# Altium footprint library MyLibOLD.pcblib: 112 footprints (part 5 of 7)
Each footprint in its own frame and in the unit in brackets; x right, y up, seen from the top. Pads: shape width x height; smd on the part's side, far side on the other; paste and mask are expansions set on the pad; w line width, h text height; cw(c..) or ccw(c..) is an arc to the next point about the centre after c.
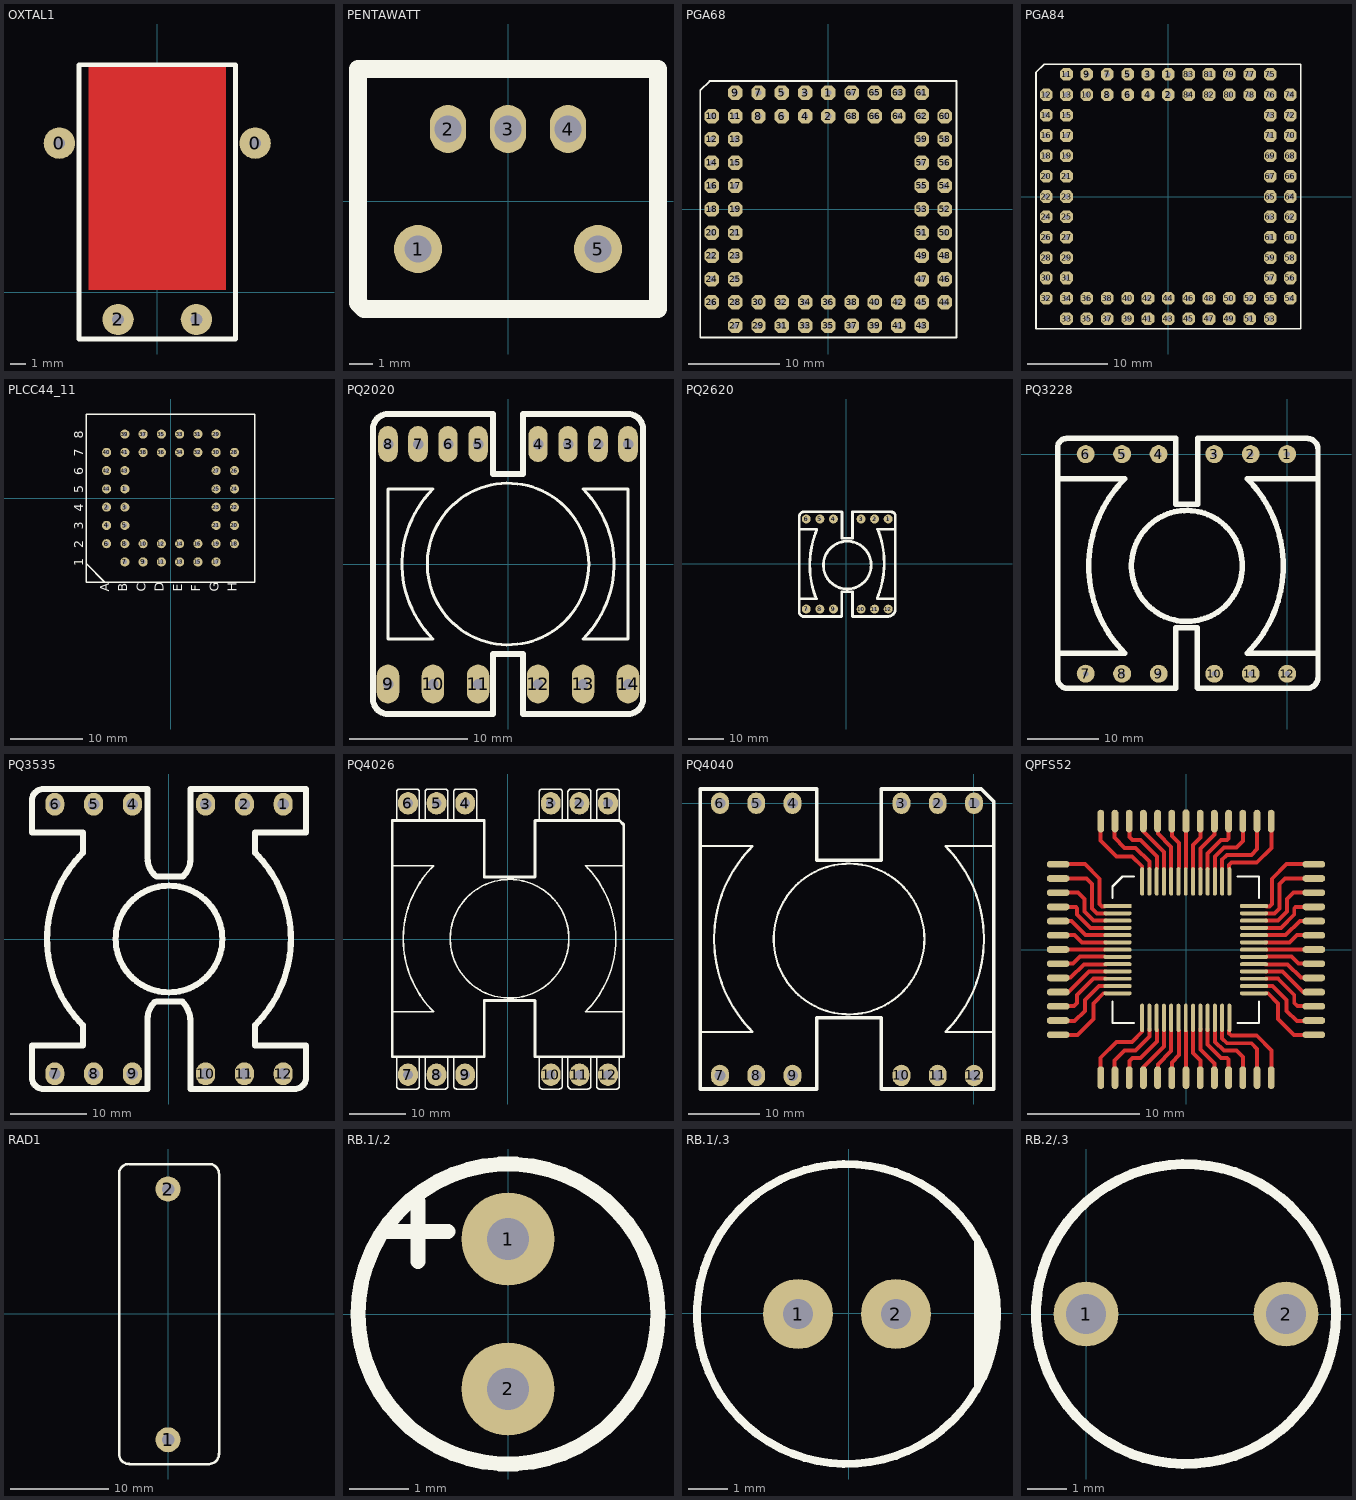
[diagram p4: the footprints below, top view; thin cyan lines are the x and y axes]

## OXTAL1 [mil]
pads (4):
  round 80 hole 30: 0(-250,380) 0(250,380) 1(100,-70) 2(-100,-70)
TopLayer:
  rectangle: -175,5 175,580
TopOverlay:
  lines w12: -200,-120 -200,580 200,580 200,-120 -200,-120

## PENTAWATT [mil]
pads (5):
  round 80 hole 45: 1(-150,-80) 5(150,-80)
  oval 60x80 hole 45: 2(-100,120) 3(0,120) 4(100,120)
TopOverlay:
  lines w30: -250,-170 -250,-100 -250,220 250,220 250,-180 -240,-180 -250,-170

## PGA68 [mil]
pads (68):
  oct 62x62 hole 25: 1(0,500) 2(0,400) 3(-100,500) 4(-100,400) 5(-200,500) 6(-200,400) 7(-300,500) 8(-300,400) 9(-400,500) 10(-500,400) 11(-400,400) 12(-500,300) 13(-400,300) 14(-500,200) 15(-400,200) 16(-500,100) 17(-400,100) 18(-500,0) 19(-400,0) 20(-500,-100) 21(-400,-100) 22(-500,-200) 23(-400,-200) 24(-500,-300) 25(-400,-300) 26(-500,-400) 27(-400,-500) 28(-400,-400) 29(-300,-500) 30(-300,-400) 31(-200,-500) 32(-200,-400) 33(-100,-500) 34(-100,-400) 35(0,-500) 36(0,-400) 37(100,-500) 38(100,-400) 39(200,-500) 40(200,-400) 41(300,-500) 42(300,-400) 43(400,-500) 44(500,-400) 45(400,-400) 46(500,-300) 47(400,-300) 48(500,-200) 49(400,-200) 50(500,-100) 51(400,-100) 52(500,0) 53(400,0) 54(500,100) 55(400,100) 56(500,200) 57(400,200) 58(500,300) 59(400,300) 60(500,400) 61(400,500) 62(400,400) 63(300,500) 64(300,400) 65(200,500) 66(200,400) 67(100,500) 68(100,400)
TopOverlay:
  lines w8: -550,-550 550,-550 550,550 -510,550 -550,510 -550,-550

## PGA84 [mil]
pads (84):
  oct 62x62 hole 25: 1(0,600) 2(0,500) 3(-100,600) 4(-100,500) 5(-200,600) 6(-200,500) 7(-300,600) 8(-300,500) 9(-400,600) 10(-400,500) 11(-500,600) 12(-600,500) 13(-500,500) 14(-600,400) 15(-500,400) 16(-600,300) 17(-500,300) 18(-600,200) 19(-500,200) 20(-600,100) 21(-500,100) 22(-600,0) 23(-500,0) 24(-600,-100) 25(-500,-100) 26(-600,-200) 27(-500,-200) 28(-600,-300) 29(-500,-300) 30(-600,-400) 31(-500,-400) 32(-600,-500) 33(-500,-600) 34(-500,-500) 35(-400,-600) 36(-400,-500) 37(-300,-600) 38(-300,-500) 39(-200,-600) 40(-200,-500) 41(-100,-600) 42(-100,-500) 43(0,-600) 44(0,-500) 45(100,-600) 46(100,-500) 47(200,-600) 48(200,-500) 49(300,-600) 50(300,-500) 51(400,-600) 52(400,-500) 53(500,-600) 54(600,-500) 55(500,-500) 56(600,-400) 57(500,-400) 58(600,-300) 59(500,-300) 60(600,-200) 61(500,-200) 62(600,-100) 63(500,-100) 64(600,0) 65(500,0) 66(600,100) 67(500,100) 68(600,200) 69(500,200) 70(600,300) 71(500,300) 72(600,400) 73(500,400) 74(600,500) 75(500,600) 76(500,500) 77(400,600) 78(400,500) 79(300,600) 80(300,500) 81(200,600) 82(200,500) 83(100,600) 84(100,500)
TopOverlay:
  lines w8: -650,-650 650,-650 650,650 -610,650 -650,610 -650,-650

## PLCC44_11 [mil]
pads (44):
  round 50 hole 25: 1(-250,50) 2(-350,-50) 3(-250,-50) 4(-350,-150) 5(-250,-150) 6(-350,-250) 7(-250,-350) 8(-250,-250) 9(-150,-350) 10(-150,-250) 11(-50,-350) 12(-50,-250) 13(50,-350) 14(50,-250) 15(150,-350) 16(150,-250) 17(250,-350) 18(350,-250) 19(250,-250) 20(350,-150) 21(250,-150) 22(350,-50) 23(250,-50) 24(350,50) 25(250,50) 26(350,150) 27(250,150) 28(350,250) 29(250,350) 30(250,250) 31(150,350) 32(150,250) 33(50,350) 34(50,250) 35(-50,350) 36(-50,250) 37(-150,350) 38(-150,250) 39(-250,350) 40(-350,250) 41(-250,250) 42(-350,150) 43(-250,150) 44(-350,50)
TopOverlay:
  lines w7.87: -460,-460 460,-460 460,460 -460,460 -460,-460
  lines w10: -460,-360 -360,-460
  text "8" at -476.43,325.55 h50
  text "7" at -476.43,225.55 h50
  text "6" at -476.43,125.55 h50
  text "5" at -476.43,25.55 h50
  text "4" at -476.43,-74.45 h50
  text "3" at -476.43,-174.45 h50
  text "2" at -476.43,-274.45 h50
  text "1" at -476.43,-374.45 h50
  text "H" at 363.57,-514.45 h50
  text "G" at 263.57,-514.45 h50
  text "F" at 163.57,-514.45 h50
  text "E" at 63.57,-514.45 h50
  text "D" at -36.43,-514.45 h50
  text "C" at -136.43,-514.45 h50
  text "B" at -236.43,-514.45 h50
  text "A" at -336.43,-514.45 h50

## PQ2020 [mil]
pads (14):
  oval 65x120 hole 35: 1(400,400) 2(300,400) 3(200,400) 4(100,400) 5(-100,400) 6(-200,400) 7(-300,400) 8(-400,400)
  oval 75x130 hole 35: 9(-400,-400) 10(-250,-400) 11(-100,-400) 12(100,-400) 13(250,-400) 14(400,-400)
TopOverlay:
  circle w10: c0,0 r269.26
  lines w10: -400,-250 -250,-250 cw(c0,0) -250,250 -400,250 -400,-250 ; 250,-250 ccw(c0,0) 250,250 400,250 400,-250 250,-250
  lines w20: -450,-450 ccw(c-400,-450) -400,-500 -50,-500 -50,-300 50,-300 50,-500 400,-500 ccw(c400,-450) 450,-450 450,450 ccw(c400,450) 400,500 50,500 50,300 -50,300 -50,500 -400,500 ccw(c-400,450) -450,450 -450,-450

## PQ2620 [mm]
pads (12):
  round 2.5 hole 0.8: 1(11.753,12.625) 2(7.939,12.625) 3(4.152,12.625) 4(-3.623,12.625) 5(-7.411,12.625) 6(-11.25,12.625) 7(-11.25,-12.665) 8(-7.411,-12.675) 9(-3.603,-12.675) 10(4.152,-12.675) 11(7.939,-12.675) 12(11.753,-12.675)
TopOverlay:
  circle w0.762: c0.272,-0.329 r6.706
  lines w0.762: -13.241,-13.639 -13.241,-11.632 ; -13.241,-11.708 -13.241,13.133 ; -13.221,13.335 cw(c-11.859,13.311) -12.072,14.655 ; -13.216,-9.752 -8.364,-9.752 ; -13.204,-13.723 ccw(c-11.961,-13.436) -12.334,-14.656 ; -13.139,9.755 -8.364,9.755 ; -12.276,-14.731 -1.405,-14.731 ; -12.098,14.657 -1.252,14.657 ; -8.496,-9.699 cw(c16.045,-0.278) -8.328,9.569 ; -1.252,-14.705 -1.252,-14.68 -1.252,-14.147 ; -1.252,-14.451 -1.252,-7.797 1.745,-7.797 1.745,-14.578 ; -1.227,14.53 -1.227,7.215 1.77,7.215 1.77,14.657 ; 1.72,-14.731 11.88,-14.731 ; 1.745,14.657 12.718,14.657 ; 8.719,-9.592 ccw(c-15.654,0.255) 8.887,9.676 ; 8.755,-9.778 13.531,-9.778 ; 8.755,9.729 13.607,9.729 ; 11.585,-14.732 ccw(c11.727,-12.699) 13.76,-12.557 ; 12.778,14.617 cw(c12.591,13.438) 13.785,13.459 ; 13.759,-12.75 13.759,13.184

## PQ3228 [mm]
pads (12):
  round 2.5 hole 0.8: 1(0,0) 2(-5.083,0) 3(-10.166,0) 4(-17.941,0) 5(-23.025,0) 6(-28.108,0) 7(-28.108,-30.624) 8(-23.025,-30.634) 9(-17.921,-30.634) 10(-10.166,-30.634) 11(-5.083,-30.634) 12(0,-30.634)
TopOverlay:
  circle w0.762: c-13.988,-15.597 r7.738
  lines w0.762: -32.022,-27.789 -31.006,-27.789 -30.752,-27.789 -22.624,-27.789 cw(c-10.432,-15.597) -22.624,-3.405 -30.752,-3.405 -32.022,-3.405 ; -30.677,-32.69 -29.661,-32.69 -26.594,-32.69 -15.723,-32.69 ; -30.498,-32.69 cw(c-30.587,-31.255) -32.022,-31.345 -32.022,0.913 cw(c-30.752,0.913) -30.752,2.183 -15.57,2.183 -15.57,-6.961 -12.466,-6.961 -12.466,2.183 ; -15.57,-32.41 -15.57,-25.756 ; -15.57,-32.106 -15.57,-32.639 -15.57,-32.664 -15.57,-24.233 -12.532,-24.233 -12.532,-32.624 ; -12.464,2.183 2.776,2.183 cw(c2.776,0.659) 4.3,0.659 4.3,-31.091 cw(c2.701,-31.091) 2.701,-32.69 -12.466,-32.69 ; 4.3,-27.789 2.776,-27.789 -5.606,-27.789 ccw(c-17.798,-15.597) -5.606,-3.405 2.776,-3.405 4.3,-3.405 ; -12.532,-32.624 -12.466,-32.69 ; -12.532,-32.624 -12.466,-32.69

## PQ3535 [mm]
pads (12):
  oval 2.5x3 hole 1.5: 1(15,17.7) 2(9.9,17.7) 3(4.8,17.7) 4(-4.8,17.7) 5(-9.9,17.7) 6(-15,17.7) 7(-15,-17.7) 8(-9.9,-17.7) 9(-4.8,-17.7) 10(4.8,-17.7) 11(9.9,-17.7) 12(15,-17.7)
TopOverlay:
  circle w0.8: c0,0 r7
  lines w0.8: -11.314,-11.314 cw(c0,0) -11.314,11.314 -11.314,13.986 -17.986,13.986 cw(c-17.953,14.019) -18,14.019 -18,18.2 cw(c-16.5,18.2) -16.5,19.7 -2.8,19.7 -2.8,10.57 ccw(c0.266,10.57) -1.902,8.402 ccw(c-1.414,8.89) -1.414,8.2 0,8.2 1.659,8.2 ccw(c1.659,8.541) 1.9,8.3 1.902,8.302 ccw(c-0.266,10.47) 2.8,10.47 2.8,19.7 18,19.7 18,14.066 cw(c17.906,14.066) 17.973,14 11.3,14 11.3,11.327 ; -11.3,-11.327 -11.3,-14 -17.973,-14 ccw(c-17.906,-14.066) -18,-14.066 -18,-18.2 ccw(c-16.5,-18.2) -16.5,-19.7 -2.8,-19.7 -2.8,-10.47 cw(c0.266,-10.47) -1.902,-8.302 ; -1.659,-8.2 0,-8.2 1.75,-8.2 ; 1.75,-8.25 cw(c-0.785,-10.785) 2.8,-10.785 2.8,-19.7 16.5,-19.7 ccw(c16.5,-18.2) 18,-18.2 18,-14.019 ccw(c17.953,-14.019) 17.986,-13.986 11.314,-13.986 11.314,-11.314 ccw(c0,0) 11.314,11.314
3D body "PQ3535.STEP": height 38.8, standoff -6, extent -18.3,-19.5 18.3,19.5

## PQ4026 [mm]
pads (12):
  oval 3.5x4 hole 1.7: 1(17.78,24.13) 2(12.7,24.13) 3(7.62,24.13) 4(-7.62,24.13) 5(-12.7,24.13) 6(-17.78,24.13) 7(-17.78,-24.13) 8(-12.7,-24.13) 9(-7.62,-24.13) 10(7.62,-24.13) 11(12.7,-24.13) 12(17.78,-24.13)
TopOverlay:
  circle w0.3: c0.28,0.05 r10.548
  lines w0.254: -19.812,-21.082 -19.812,-26.162 ccw(c-19.304,-26.162) -19.304,-26.67 -16.256,-26.67 ccw(c-16.256,-26.162) -15.748,-26.162 -15.748,-21.082 ; -19.812,21.082 -19.812,26.162 cw(c-19.304,26.162) -19.304,26.67 -16.256,26.67 cw(c-16.256,26.162) -15.748,26.162 -15.748,21.082 ; -14.732,-21.082 -14.732,-26.162 ccw(c-14.224,-26.162) -14.224,-26.67 -11.176,-26.67 ccw(c-11.176,-26.162) -10.668,-26.162 -10.668,-21.082 ; -14.732,21.082 -14.732,26.162 cw(c-14.224,26.162) -14.224,26.67 -11.176,26.67 cw(c-11.176,26.162) -10.668,26.162 -10.668,21.082 ; -9.652,-21.082 -9.652,-26.162 ccw(c-9.144,-26.162) -9.144,-26.67 -6.096,-26.67 ccw(c-6.096,-26.162) -5.588,-26.162 -5.588,-21.082 ; -9.652,21.082 -9.652,26.162 cw(c-9.144,26.162) -9.144,26.67 -6.096,26.67 cw(c-6.096,26.162) -5.588,26.162 -5.588,21.082 ; 5.588,-21.082 5.588,-26.162 ccw(c6.096,-26.162) 6.096,-26.67 9.144,-26.67 ccw(c9.144,-26.162) 9.652,-26.162 9.652,-21.082 ; 5.588,21.082 5.588,26.162 cw(c6.096,26.162) 6.096,26.67 9.144,26.67 cw(c9.144,26.162) 9.652,26.162 9.652,21.082 ; 10.668,-21.082 10.668,-26.162 ccw(c11.176,-26.162) 11.176,-26.67 14.224,-26.67 ccw(c14.224,-26.162) 14.732,-26.162 14.732,-21.082 ; 10.668,21.082 10.668,26.162 cw(c11.176,26.162) 11.176,26.67 14.224,26.67 cw(c14.224,26.162) 14.732,26.162 14.732,21.082 ; 15.748,-21.082 15.748,-26.162 ccw(c16.256,-26.162) 16.256,-26.67 19.304,-26.67 ccw(c19.304,-26.162) 19.812,-26.162 19.812,-21.082 ; 15.748,21.082 15.748,26.162 cw(c16.256,26.162) 16.256,26.67 19.304,26.67 cw(c19.304,26.162) 19.812,26.162 19.812,21.082
  lines w0.3: -20.447,-12.95 -13.208,-12.95 ; -20.447,13.05 -13.22,13.05 ccw(c-0.22,0.05) -13.22,-12.95 ; 20.574,-12.95 13.78,-12.95 ccw(c0.78,0.05) 13.78,13.05 20.574,13.081
  lines w0.5: -20.574,-20.95 -4.22,-20.95 -4.22,-10.95 4.78,-10.95 4.78,-20.95 20.574,-20.95 20.574,20.32 19.844,21.05 4.78,21.05 4.78,11.05 -4.22,11.05 -4.22,21.05 -20.574,21.05 -20.574,-20.95
3D body: height 5, standoff 0, extent -20.828,-20.828 20.828,20.828
3D body: height 1.9, standoff -1.9, extent -13.208,13.208 -13.208,13.208
3D body: height 1.9, standoff -1.9, extent -14.732,13.208 -14.732,13.208
3D body: height 26, standoff 0, extent -20.32,-14.224 20.32,14.224

## PQ4040 [mm]
pads (12):
  oval 2.5x3 hole 1.5: 1(0,0) 2(-5.08,0) 3(-10.16,0) 4(-25.4,0) 5(-30.48,0) 6(-35.56,0) 7(-35.56,-38.1) 8(-30.48,-38.1) 9(-25.4,-38.1) 10(-10.16,-38.1) 11(-5.08,-38.1) 12(0,-38.1)
TopOverlay:
  circle w0.3: c-17.5,-19 r10.548
  lines w0.3: -38.227,-32 -30.988,-32 ; -38.227,-6 -31,-6 ccw(c-18,-19) -31,-32 ; 2.794,-32 -4,-32 ccw(c-17,-19) -4,-6 2.794,-5.969
  lines w0.5: -38.354,-40 -38.354,2 -22,2 -22,-8 -13,-8 -13,2 1,2 2.794,0.206 2.794,-40 -13,-40 -13,-30 -22,-30 -22,-40 -38.354,-40

## QPFS52 [mil]
pads (104):
  oval 100x14 smd: 0(-241,-154.09) 0(-241,-128.5) 0(-241,-102.91) 0(-241,-77.31) 0(-241,-51.73) 0(-241,-26.13) 0(-241,-0.54) 0(-241,25.05) 0(-241,50.64) 0(-241,76.23) 0(-241,101.82) 0(-241,127.41) 0(239.32,-154.09) 0(239.32,-128.5) 0(239.32,-102.91) 0(239.32,-77.31) 0(239.32,-51.73) 0(239.32,-26.13) 0(239.32,-0.54) 0(239.32,25.05) 0(239.32,50.64) 0(239.32,76.23) 0(239.32,101.82) 0(239.32,127.41)
  rect 100x14 smd: 0(-241,153)
  oval 14x100 smd: 0(-154.39,-240.7) 0(-154.39,239.61) 0(-128.79,-240.7) 0(-128.79,239.61) 0(-103.2,-240.7) 0(-103.2,239.61) 0(-77.61,-240.7) 0(-77.61,239.61) 0(-52.02,-240.7) 0(-52.02,239.61) 0(-26.43,-240.7) 0(-26.43,239.61) 0(-0.84,-240.7) 0(-0.84,239.61) 0(24.75,-240.7) 0(24.75,239.61) 0(50.34,-240.7) 0(50.34,239.61) 0(75.93,-240.7) 0(75.93,239.61) 0(101.52,-240.7) 0(101.52,239.61) 0(127.11,-240.7) 0(127.11,239.61) 0(152.7,-240.7) 0(152.7,239.61)
  oval 100x15 smd: 0(239.32,153)
  oval 80x24 smd: 1(-450,300) 2(-450,250) 3(-450,200) 4(-450,150) 5(-450,100) 6(-450,50) 7(-450,0) 8(-450,-50) 9(-450,-100) 10(-450,-150) 11(-450,-200) 12(-450,-250) 13(-450,-300) 27(450,-300) 28(450,-250) 29(450,-200) 30(450,-150) 31(450,-100) 32(450,-50) 33(450,0) 34(450,50) 35(450,100) 36(450,150) 37(450,200) 38(450,250) 39(450,300)
  oval 24x80 smd: 14(-300,-451) 15(-250,-451) 16(-200,-451) 17(-150,-451) 18(-100,-451) 19(-50,-451) 20(0,-451) 21(50,-451) 22(100,-451) 23(150,-451) 24(200,-451) 25(250,-451) 26(300,-451) 40(300,452) 41(250,452) 42(200,452) 43(150,452) 44(100,452) 45(50,452) 47(-50,452) 48(-100,452) 49(-150,452) 50(-200,452) 51(-250,452) 52(-300,452)
  oct 24x80 smd: 46(0,452)
TopLayer:
  lines w14: -428,-99 -406,-99 -359,-52 -349,-52 -282,-52 ; -425,-301 -382,-301 -326,-245 -326,-190 -290,-154 -284,-154 ; -424,250 -351,250 -331,230 -331,144 -314,127 -284,127 ; -423,-199 -394,-199 -383,-188 -383,-160 -339,-116 -325,-102 -284,-102 ; -423,0 -289,0 ; -423,200 -380,200 -357,177 -357,133 -326,102 -284,102 ; -422,-50 -398,-50 -373,-25 -287,-25 ; -421,-251 -393,-251 ; -421,101 -403,101 -353,51 -281,51 ; -420,150 -388,150 -383,145 -383,123 -336,76 -282,76 ; -420,301 -356,301 -304,249 -304,160 -296,152 -286,152 ; -418,51 -392,51 -366,25 -281,25 ; -414,-149 -361,-96 -342,-77 -284,-77 ; -392,-252 -356,-216 -356,-178 -307,-129 -283,-129 ; -301,-424 -301,-381 -245,-325 -190,-325 -154,-289 -154,-283 ; -301,427 -301,384 -245,328 -190,328 -154,292 -154,286 ; -252,-391 -216,-355 -178,-355 -129,-306 -129,-282 ; -252,394 -216,358 -178,358 -129,309 -129,285 ; -251,-420 -251,-392 ; -251,395 -251,423 ; -199,-422 -199,-393 -188,-382 -160,-382 -116,-338 -102,-324 -102,-283 ; -199,425 -199,396 -188,385 -160,385 -116,341 -102,327 -102,286 ; -149,-413 -96,-360 -77,-341 -77,-283 ; -149,416 -96,363 -77,344 -77,286 ; -99,-427 -99,-405 -52,-358 -52,-348 -52,-281 ; -99,430 -99,408 -52,361 -52,351 -52,284 ; -50,-421 -50,-397 -25,-372 -25,-286 ; -50,424 -50,400 -25,375 -25,289 ; 0,-422 0,-288 ; 0,291 0,425 ; 25,-280 25,-365 51,-391 51,-417 ; 25,283 25,368 51,394 51,420 ; 51,-280 51,-352 101,-402 101,-420 ; 51,283 51,355 101,405 101,423 ; 76,-281 76,-335 123,-382 145,-382 150,-387 150,-419 ; 76,284 76,338 123,385 145,385 150,390 150,422 ; 102,-283 102,-325 133,-356 177,-356 200,-379 200,-422 ; 102,286 102,328 133,359 177,359 200,382 200,425 ; 127,-283 127,-313 144,-330 230,-330 250,-350 250,-423 ; 127,286 127,316 144,333 230,333 250,353 250,426 ; 152,-285 152,-295 160,-303 249,-303 301,-355 301,-419 ; 152,288 152,298 160,306 249,306 301,358 301,422 ; 279,25 364,25 390,51 416,51 ; 279,51 351,51 401,101 419,101 ; 280,-52 347,-52 357,-52 404,-99 426,-99 ; 280,76 334,76 381,123 381,145 386,150 418,150 ; 281,-129 305,-129 354,-178 354,-216 390,-252 ; 282,-154 288,-154 324,-190 324,-245 380,-301 423,-301 ; 282,-102 323,-102 337,-116 381,-160 381,-188 392,-199 421,-199 ; 282,-77 340,-77 359,-96 412,-149 ; 282,102 324,102 355,133 355,177 378,200 421,200 ; 282,127 312,127 329,144 329,230 349,250 422,250 ; 284,152 294,152 302,160 302,249 354,301 418,301 ; 285,-25 371,-25 396,-50 420,-50 ; 287,0 421,0 ; 391,-251 419,-251
TopOverlay:
  lines w7.87: -258.72,-183.62 -258.72,-258.42 -183.91,-258.42 ; -258.72,182.53 -258.72,221.9 -223.28,257.33 -183.91,257.33 ; 182.23,-258.42 257.03,-258.42 257.03,-183.62 ; 182.23,257.33 257.03,257.33 257.03,182.53

## RAD1 [mil]
pads (2):
  round 100 hole 50: 1(-1,-504) 2(-1,499)
TopOverlay:
  lines w10: -157,-601 163,-601 ccw(c163,-561) 202.99,-560.3 ; -156.3,-600.99 cw(c-157,-561) -197,-561 -197,559 cw(c-157,559) -157,599 163,599 cw(c163,559) 203,559 203,-561

## RB.1/.2 [mil]
pads (2):
  round 62 hole 28: 1(0,50) 2(0,-50)
TopOverlay:
  circle w10: c0,0 r100
  lines w10: -80,55 -40,55 ; -60,35 -60,75

## RB.1/.3 [mil]
pads (2):
  round 70 hole 30: 1(-51,-1) 2(47,-1)
TopOverlay:
  circle w8: c-2,-1 r150.05
  lines w8: 129,-72 129,58 ; 129,52 129,71 ; 135,-55 135,53 ; 140,-40 140,33

## RB.2/.3 [mil]
pads (2):
  round 65 hole 40: 1(0,0) 2(200,0)
TopOverlay:
  circle w10: c100,0 r150